# EAGLE library part HEAD_CONNECTOR (library PNP_v23)
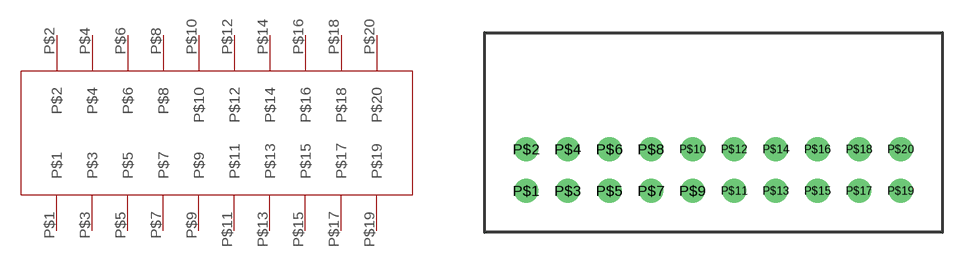
[diagram p1: symbol with the pads of HEAD_CONNECTOR; footprint HEAD_CONNECTOR]

Designator prefix -

## HEAD_CONNECTOR  [HEAD_CONNECTOR]
P$1  P$1
P$2  P$2
P$3  P$3
P$4  P$4
P$5  P$5
P$6  P$6
P$7  P$7
P$8  P$8
P$9  P$9
P$10  P$10
P$11  P$11
P$12  P$12
P$13  P$13
P$14  P$14
P$15  P$15
P$16  P$16
P$17  P$17
P$18  P$18
P$19  P$19
P$20  P$20

## Footprint HEAD_CONNECTOR (pad centres in mm)
drill 0.65: P$1 2,2; P$2 2,4; P$3 4,2; P$4 4,4; P$5 6,2; P$6 6,4; P$7 8,2; P$8 8,4; P$9 10,2; P$10 10,4; P$11 12,2; P$12 12,4; P$13 14,2; P$14 14,4; P$15 16,2; P$16 16,4; P$17 18,2; P$18 18,4; P$19 20,2; P$20 20,4